# Altium schematic symbol library AD8629S.Schlib: 1 symbol
Pins are listed as number, name and electrical type; pins without a type are passive.

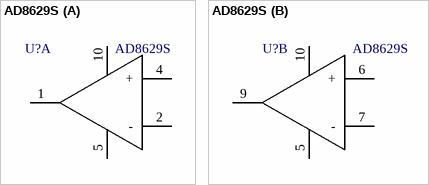
[diagram p0: symbol AD8629S]

## AD8629S
designator U?
Назначение: Операционный усилитель; Наименование: AD8629S
footprint 10pin FlatPack
part A pins: 1 Vout, 2 -, 4 +, 5 Vss-, 10 Vss+
part B pins: 5 Vss-, 6 +, 7 -, 9 Vout, 10 Vss+